# Altium footprint library RT0603BRD0750RL.PcbLib: 3 footprints
Each footprint in its own frame and in the unit in brackets; x right, y up, seen from the top. Pads: shape width x height; smd on the part's side, far side on the other; paste and mask are expansions set on the pad; w line width, h text height; cw(c..) or ccw(c..) is an arc to the next point about the centre after c.
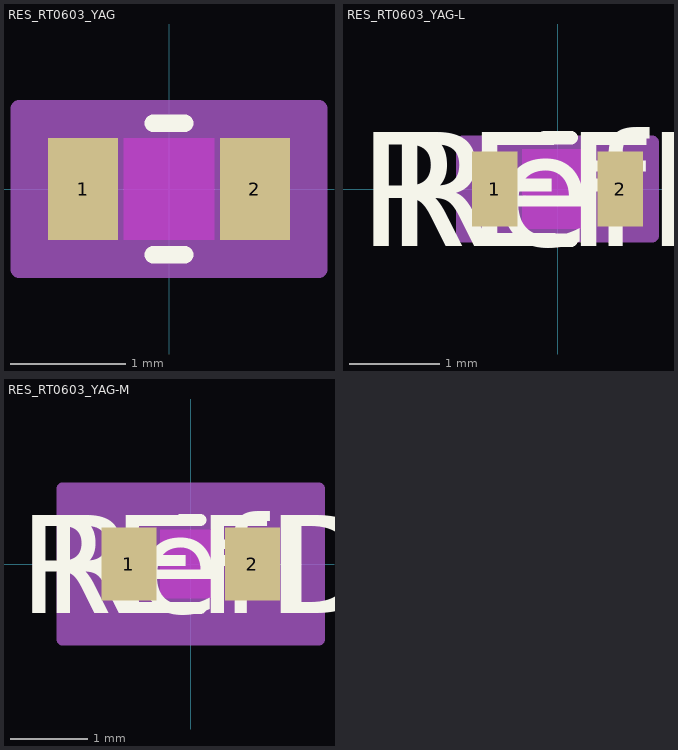
[diagram p0: the footprints below, top view; thin cyan lines are the x and y axes]

## RES_RT0603_YAG [mil]
pads (2):
  rect 24x35 smd paste+0 mask+0: 1(-29.5,0) 2(29.5,0)
Top Layer keep-out:
  region: -15.5,-15.5 -15.5,15.5 15.5,15.5 15.5,-15.5
Top Overlay:
  lines w6: -5.39,-22.5 5.39,-22.5 ; -5.39,22.5 5.39,22.5
Keep-Out Layer:
  region: -15.5,-17.5 -15.5,17.5 15.5,17.5 15.5,-17.5
Mechanical 13:
  lines w1: -33.5,-17.5 -33.5,17.5 ; -33.5,-17.5 33.5,-17.5 ; -33.5,-17.5 -17.5,-17.5 -17.5,17.5 -33.5,17.5 ; -33.5,-17.5 -33.5,17.5 ; -33.5,17.5 33.5,17.5 ; 33.5,-17.5 33.5,17.5 ; 33.5,-17.5 33.5,17.5 ; 33.5,-17.5 17.5,-17.5 17.5,17.5 33.5,17.5
Mechanical 15:
  region: 51.5,-27.5 -51.5,-27.5 -51.5,27.5 51.5,27.5
  lines w6: -51.5,-27.5 51.5,-27.5 51.5,27.5 -51.5,27.5 -51.5,-27.5
3D body "RES_RT0603_YAG.step": height 22.01, standoff 0, extent -33.5,-17.48 33.5,17.48

## RES_RT0603_YAG-L [mil]
pads (2):
  rect 20x33 smd paste+0 mask+0: 1(-27.5,0) 2(27.5,0)
Top Layer keep-out:
  region: -15.5,-15.5 -15.5,15.5 15.5,15.5 15.5,-15.5
Top Overlay:
  lines w6: -5.85,-22.5 5.85,-22.5 ; -5.85,22.5 5.85,22.5
  text "RefDes" at -75,-25 h50
  text "REFDES" at -87.5,-25 h50
Keep-Out Layer:
  region: -15.5,-17.5 -15.5,17.5 15.5,17.5 15.5,-17.5
Mechanical 13:
  lines w1: -33.5,-17.5 -33.5,17.5 ; -33.5,-17.5 -17.5,-17.5 -17.5,17.5 -33.5,17.5 ; -33.5,-17.5 33.5,-17.5 ; -33.5,-17.5 -33.5,17.5 ; -33.5,17.5 33.5,17.5 ; 33.5,-17.5 17.5,-17.5 17.5,17.5 33.5,17.5 ; 33.5,-17.5 33.5,17.5 ; 33.5,-17.5 33.5,17.5
  text "RefDes2" at -87.5,-25 h50
Mechanical 15:
  region: 41.5,-20.5 -41.5,-20.5 -41.5,20.5 41.5,20.5
  lines w6: -41.5,-20.5 -41.5,20.5 41.5,20.5 41.5,-20.5 -41.5,-20.5
3D body "RES_RT0603_YAG.step": height 22.01, standoff 0, extent -33.5,-17.48 33.5,17.48

## RES_RT0603_YAG-M [mil]
pads (2):
  rect 28x37 smd paste+0 mask+0: 1(-31.5,0) 2(31.5,0)
Top Layer keep-out:
  region: -15.5,-15.5 -15.5,15.5 15.5,15.5 15.5,-15.5
Top Overlay:
  lines w6: -5.03,-22.5 5.03,-22.5 ; -5.03,22.5 5.03,22.5
  text "RefDes" at -75,-25 h50
  text "REFDES" at -87.5,-25 h50
Keep-Out Layer:
  region: -15.5,-17.5 -15.5,17.5 15.5,17.5 15.5,-17.5
Mechanical 13:
  lines w1: -33.5,-17.5 -33.5,17.5 ; -33.5,-17.5 -17.5,-17.5 -17.5,17.5 -33.5,17.5 ; -33.5,-17.5 33.5,-17.5 ; -33.5,-17.5 -33.5,17.5 ; -33.5,17.5 33.5,17.5 ; 33.5,-17.5 17.5,-17.5 17.5,17.5 33.5,17.5 ; 33.5,-17.5 33.5,17.5 ; 33.5,-17.5 33.5,17.5
  text "RefDes2" at -87.5,-25 h50
Mechanical 15:
  region: 65.5,-38.5 -65.5,-38.5 -65.5,38.5 65.5,38.5
  lines w6: -65.5,-38.5 -65.5,38.5 65.5,38.5 65.5,-38.5 -65.5,-38.5
3D body "RES_RT0603_YAG.step": height 22.01, standoff 0, extent -33.5,-17.48 33.5,17.48